# Altium footprint library EMG_PATCH.PcbLib: 9 footprints
Each footprint in its own frame and in the unit in brackets; x right, y up, seen from the top. Pads: shape width x height; smd on the part's side, far side on the other; paste and mask are expansions set on the pad; w line width, h text height; cw(c..) or ccw(c..) is an arc to the next point about the centre after c.
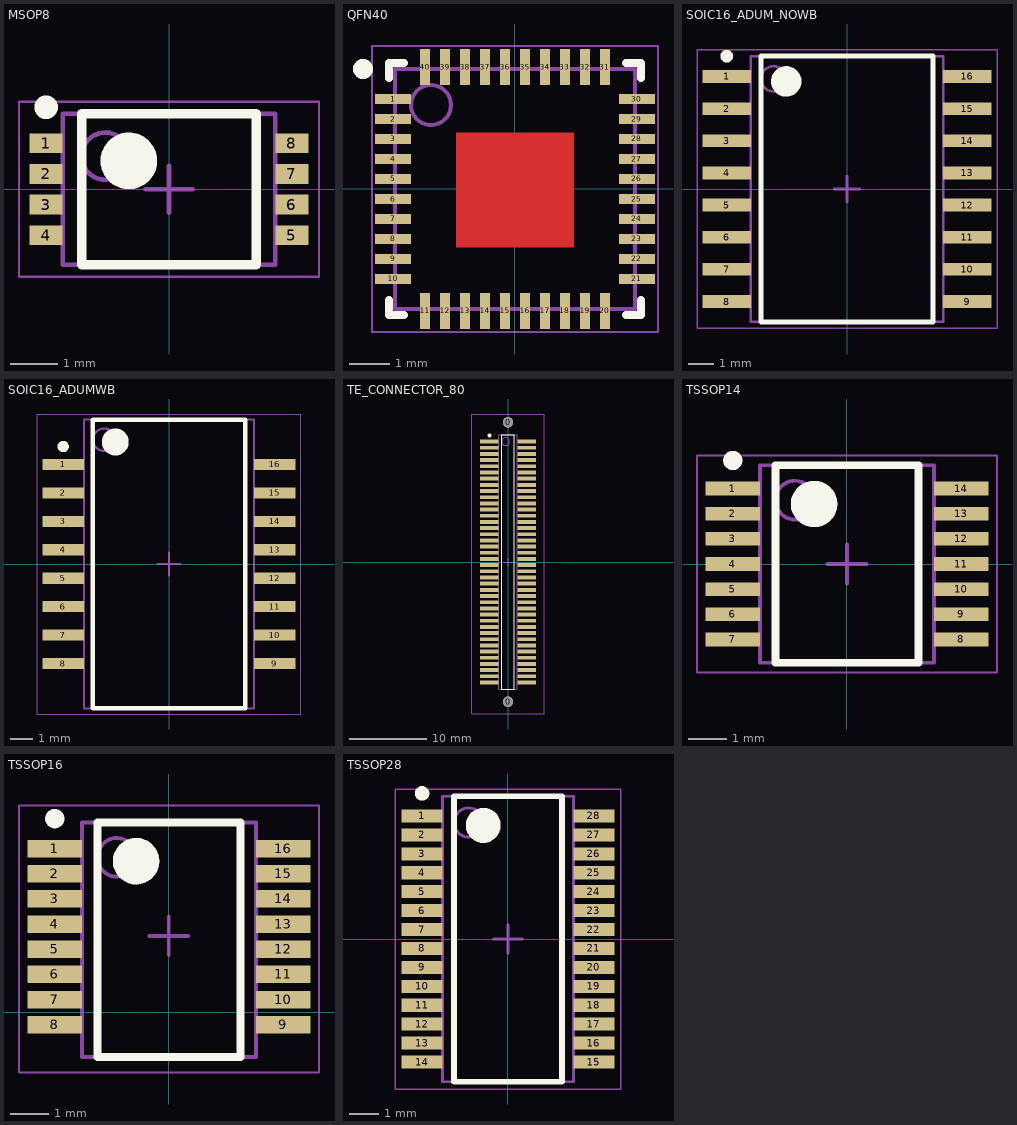
[diagram p0: the footprints below, top view; thin cyan lines are the x and y axes]

## MSOP8 [mm] "MSOP8"
height 1.2
pads (8):
  rect 0.7x0.42 smd: 1(-2.6,0.975) 2(-2.6,0.325) 3(-2.6,-0.325) 4(-2.6,-0.975) 5(2.6,-0.975) 6(2.6,-0.325) 7(2.6,0.325) 8(2.6,0.975)
Top Overlay:
  circle w0.6: c-0.85,0.6 r0.3
  circle w0.25: c-2.6,1.735 r0.125
  lines w0.2: -1.85,-1.6 1.85,-1.6 1.85,1.6 -1.85,1.6 -1.85,-1.6
Mechanical 13:
  circle w0.1: c-1.35,0.7 r0.5
  lines w0.1: -2.25,-1.6 2.25,-1.6 2.25,1.6 -2.25,1.6 -2.25,-1.6
Mechanical 15:
  lines w0.05: -3.175,-1.85 3.175,-1.85 3.175,1.85 -3.175,1.85 -3.175,-1.85
  lines w0.1: -0.5,0 0.5,0 ; 0,-0.5 0,0.5
3D body: height 1.2, standoff 0.05, extent -2.25,-1.6 2.25,1.6

## PCBComponent_1 - duplicate [mm]

## QFN40 [mm] "qfn40"
height 0.85
pads (40):
  rect 0.9x0.25 smd: 1(-3.05,2.25) 2(-3.05,1.75) 3(-3.05,1.25) 4(-3.05,0.75) 5(-3.05,0.25) 6(-3.05,-0.25) 7(-3.05,-0.75) 8(-3.05,-1.25) 9(-3.05,-1.75) 10(-3.05,-2.25) 21(3.05,-2.25) 22(3.05,-1.75) 23(3.05,-1.25) 24(3.05,-0.75) 25(3.05,-0.25) 26(3.05,0.25) 27(3.05,0.75) 28(3.05,1.25) 29(3.05,1.75) 30(3.05,2.25)
  rect 0.25x0.9 smd: 11(-2.25,-3.05) 12(-1.75,-3.05) 13(-1.25,-3.05) 14(-0.75,-3.05) 15(-0.25,-3.05) 16(0.25,-3.05) 17(0.75,-3.05) 18(1.25,-3.05) 19(1.75,-3.05) 20(2.25,-3.05) 31(2.25,3.05) 32(1.75,3.05) 33(1.25,3.05) 34(0.75,3.05) 35(0.25,3.05) 36(-0.25,3.05) 37(-0.75,3.05) 38(-1.25,3.05) 39(-1.75,3.05) 40(-2.25,3.05)
Top Layer:
  rectangle: -1.474,-1.458 1.472,1.415
Top Overlay:
  circle w0.25: c-3.8,3 r0.125
  lines w0.2: -3.15,-2.775 -3.15,-3.15 -2.775,-3.15 ; -3.15,2.775 -3.15,3.15 -2.775,3.15 ; 2.775,-3.15 3.15,-3.15 3.15,-2.775 ; 2.775,3.15 3.15,3.15 3.15,2.775
Mechanical 13:
  circle w0.1: c-2.1,2.1 r0.5
  lines w0.1: -3,-3 3,-3 3,3 -3,3 -3,-3
Mechanical 15:
  lines w0.05: -3.575,-3.575 3.575,-3.575 3.575,3.575 -3.575,3.575 -3.575,-3.575
  lines w0.1: -0.5,0 0.5,0 ; 0,-0.5 0,0.5
3D body: height 0.85, standoff 0.02, extent -3,-3 3,3

## SOIC16_ADUM_NOWB [mm] "SOIC, 16-Leads, Body 10,30x7,50mm, Pitch 1,27mm, IPC Medium Density"
height 2.65
pads (16):
  rect 1.9x0.5 smd: 1(-4.75,4.445) 2(-4.75,3.175) 3(-4.75,1.905) 4(-4.75,0.635) 5(-4.75,-0.635) 6(-4.75,-1.905) 7(-4.75,-3.175) 8(-4.75,-4.445) 9(4.75,-4.445) 10(4.75,-3.175) 11(4.75,-1.905) 12(4.75,-0.635) 13(4.75,0.635) 14(4.75,1.905) 15(4.75,3.175) 16(4.75,4.445)
Top Overlay:
  circle w0.25: c-4.75,5.245 r0.125
  circle w0.6: c-2.4,4.25 r0.3
  lines w0.2: -3.4,-5.25 -3.4,5.25 3.4,5.25 3.4,-5.25 -3.4,-5.25
Mechanical 13:
  circle w0.1: c-2.9,4.35 r0.5
  lines w0.1: -3.8,-5.25 -3.8,5.25 3.8,5.25 3.8,-5.25 -3.8,-5.25
Mechanical 15:
  lines w0.05: -5.925,-5.5 -5.925,5.5 5.925,5.5 5.925,-5.5 -5.925,-5.5
  lines w0.1: -0.5,0 0.5,0 ; 0,-0.5 0,0.5
3D body: height 2.65, standoff 0.1, extent -3.8,-5.25 3.8,5.25

## SOIC16_ADUMWB [mm]
height 2.64
pads (16):
  rect 1.85x0.5 smd: 1(-4.725,4.445) 2(-4.725,3.175) 3(-4.725,1.905) 4(-4.725,0.635) 5(-4.725,-0.635) 6(-4.725,-1.905) 7(-4.725,-3.175) 8(-4.725,-4.445) 9(4.725,-4.445) 10(4.725,-3.175) 11(4.725,-1.905) 12(4.725,-0.635) 13(4.725,0.635) 14(4.725,1.905) 15(4.725,3.175) 16(4.725,4.445)
Top Overlay:
  circle w0.6: c-2.4,5.45 r0.3
  circle w0.25: c-4.725,5.245 r0.125
  lines w0.2: -3.4,-6.45 3.4,-6.45 3.4,6.45 -3.4,6.45 -3.4,-6.45
Mechanical 13:
  circle w0.1: c-2.9,5.55 r0.5
  lines w0.1: -3.8,-6.45 3.8,-6.45 3.8,6.45 -3.8,6.45 -3.8,-6.45
Mechanical 15:
  lines w0.05: -5.875,-6.7 5.875,-6.7 5.875,6.7 -5.875,6.7 -5.875,-6.7
  lines w0.1: -0.5,0 0.5,0 ; 0,-0.5 0,0.5
3D body: height 2.64, standoff 0.1, extent -3.8,-6.45 3.8,6.45

## TE_CONNECTOR_80 [mm] "80_pin_connector"
height 1.1
pads (82):
  round 1.35 hole 1.35 unplated: 0(0,-18.1) 0(0,18.1)
  rect 2.4x0.5 smd: 1(-2.4,15.6) 2(-2.4,14.8) 3(-2.4,14) 4(-2.4,13.2) 5(-2.4,12.4) 6(-2.4,11.6) 7(-2.4,10.8) 8(-2.4,10) 9(-2.4,9.2) 10(-2.4,8.4) 11(-2.4,7.6) 12(-2.4,6.8) 13(-2.4,6) 14(-2.4,5.2) 15(-2.4,4.4) 16(-2.4,3.6) 17(-2.4,2.8) 18(-2.4,2) 19(-2.4,1.2) 20(-2.4,0.4) 21(-2.4,-0.4) 22(-2.4,-1.2) 23(-2.4,-2) 24(-2.4,-2.8) 25(-2.4,-3.6) 26(-2.4,-4.4) 27(-2.4,-5.2) 28(-2.4,-6) 29(-2.4,-6.8) 30(-2.4,-7.6) 31(-2.4,-8.4) 32(-2.4,-9.2) 33(-2.4,-10) 34(-2.4,-10.8) 35(-2.4,-11.6) 36(-2.4,-12.4) 37(-2.4,-13.2) 38(-2.4,-14) 39(-2.4,-14.8) 40(-2.4,-15.6) 41(2.4,-15.6) 42(2.4,-14.8) 43(2.4,-14) 44(2.4,-13.2) 45(2.4,-12.4) 46(2.4,-11.6) 47(2.4,-10.8) 48(2.4,-10) 49(2.4,-9.2) 50(2.4,-8.4) 51(2.4,-7.6) 52(2.4,-6.8) 53(2.4,-6) 54(2.4,-5.2) 55(2.4,-4.4) 56(2.4,-3.6) 57(2.4,-2.8) 58(2.4,-2) 59(2.4,-1.2) 60(2.4,-0.4) 61(2.4,0.4) 62(2.4,1.2) 63(2.4,2) 64(2.4,2.8) 65(2.4,3.6) 66(2.4,4.4) 67(2.4,5.2) 68(2.4,6) 69(2.4,6.8) 70(2.4,7.6) 71(2.4,8.4) 72(2.4,9.2) 73(2.4,10) 74(2.4,10.8) 75(2.4,11.6) 76(2.4,12.4) 77(2.4,13.2) 78(2.4,14) 79(2.4,14.8) 80(2.4,15.6)
Top Overlay:
  circle w0.25: c-2.4,16.4 r0.125
  lines w0.1: -0.8,-16.5 0.8,-16.5 0.8,16.5 -0.8,16.5 -0.8,-16.5
Mechanical 13:
  circle w0.1: c-0.3,15.6 r0.5
  lines w0.1: -1.2,-16.5 1.2,-16.5 1.2,16.5 -1.2,16.5 -1.2,-16.5
Mechanical 15:
  lines w0.05: -4.725,-19.685 4.725,-19.685 4.725,19.177 -4.725,19.177 -4.725,-19.685
  lines w0.1: -0.5,0 0.5,0 ; 0,-0.5 0,0.5
3D body: height 1.1, standoff 0.1, extent -1.2,-16.5 1.2,16.5

## TSSOP14 [mm] "TSSOP14"
height 1.2
pads (14):
  rect 1.4x0.35 smd: 1(-2.95,1.95) 2(-2.95,1.3) 3(-2.95,0.65) 4(-2.95,0) 5(-2.95,-0.65) 6(-2.95,-1.3) 7(-2.95,-1.95) 8(2.95,-1.95) 9(2.95,-1.3) 10(2.95,-0.65) 11(2.95,0) 12(2.95,0.65) 13(2.95,1.3) 14(2.95,1.95)
Top Overlay:
  circle w0.25: c-2.95,2.675 r0.125
  circle w0.6: c-0.85,1.55 r0.3
  lines w0.2: -1.85,-2.55 -1.85,2.55 1.85,2.55 1.85,-2.55 -1.85,-2.55
Mechanical 13:
  circle w0.1: c-1.35,1.65 r0.5
  lines w0.1: -2.25,-2.55 -2.25,2.55 2.25,2.55 2.25,-2.55 -2.25,-2.55
Mechanical 15:
  lines w0.05: -3.875,-2.8 -3.875,2.8 3.875,2.8 3.875,-2.8 -3.875,-2.8
  lines w0.1: -0.5,0 0.5,0 ; 0,-0.5 0,0.5
3D body: height 1.2, standoff 0.05, extent -2.25,-2.55 2.25,2.55

## TSSOP16 [mm] "TSSOP28"
height 1.2
pads (16):
  rect 1.4x0.45 smd: 1(-2.95,4.225) 2(-2.95,3.575) 3(-2.95,2.925) 4(-2.95,2.275) 5(-2.95,1.625) 6(-2.95,0.975) 7(-2.95,0.325) 8(-2.95,-0.325) 9(2.95,-0.325) 10(2.95,0.325) 11(2.95,0.975) 12(2.95,1.625) 13(2.95,2.275) 14(2.95,2.925) 15(2.95,3.575) 16(2.95,4.225)
Top Overlay:
  circle w0.25: c-2.95,5 r0.125
  circle w0.6: c-0.85,3.9 r0.3
  lines w0.2: -1.85,-1.156 -1.85,4.9 1.85,4.9 1.85,-1.156 -1.85,-1.156
Mechanical 13:
  circle w0.1: c-1.35,4 r0.5
  lines w0.1: -2.25,-1.156 -2.25,4.9 2.25,4.9 2.25,-1.156 -2.25,-1.156
Mechanical 15:
  lines w0.05: -3.875,-1.556 -3.875,5.337 3.875,5.337 3.875,-1.556 -3.875,-1.556
  lines w0.1: -0.508,1.972 0.492,1.972 ; -0.008,1.474 -0.008,2.474
3D body: height 1.2, standoff 0.05, extent -2.25,-1.179 2.25,4.9

## TSSOP28 [mm] "TSSOP28"
height 1.2
pads (28):
  rect 1.4x0.45 smd: 1(-2.95,4.225) 2(-2.95,3.575) 3(-2.95,2.925) 4(-2.95,2.275) 5(-2.95,1.625) 6(-2.95,0.975) 7(-2.95,0.325) 8(-2.95,-0.325) 9(-2.95,-0.975) 10(-2.95,-1.625) 11(-2.95,-2.275) 12(-2.95,-2.925) 13(-2.95,-3.575) 14(-2.95,-4.225) 15(2.95,-4.225) 16(2.95,-3.575) 17(2.95,-2.925) 18(2.95,-2.275) 19(2.95,-1.625) 20(2.95,-0.975) 21(2.95,-0.325) 22(2.95,0.325) 23(2.95,0.975) 24(2.95,1.625) 25(2.95,2.275) 26(2.95,2.925) 27(2.95,3.575) 28(2.95,4.225)
Top Overlay:
  circle w0.25: c-2.95,5 r0.125
  circle w0.6: c-0.85,3.9 r0.3
  lines w0.2: -1.85,-4.9 -1.85,4.9 1.85,4.9 1.85,-4.9 -1.85,-4.9
Mechanical 13:
  circle w0.1: c-1.35,4 r0.5
  lines w0.1: -2.25,-4.9 -2.25,4.9 2.25,4.9 2.25,-4.9 -2.25,-4.9
Mechanical 15:
  lines w0.05: -3.875,-5.15 -3.875,5.15 3.875,5.15 3.875,-5.15 -3.875,-5.15
  lines w0.1: -0.5,0 0.5,0 ; 0,-0.5 0,0.5
3D body: height 1.2, standoff 0.05, extent -2.25,-4.9 2.25,4.9